# EAGLE library part RA07H4047M (library kj4qlp)
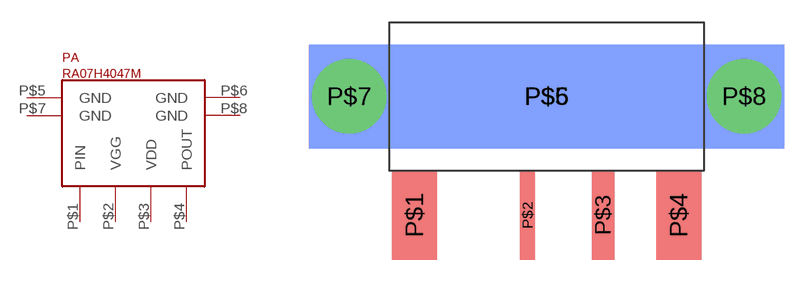
[diagram p2: symbol with the pads of H46; footprint H46]

Designator prefix PA

## RA07H4047M  [H46]
P$1  PIN
P$2  VGG
P$3  VDD
P$4  POUT
P$5  GND
P$6  GND
P$7  GND
P$8  GND

## Footprint H46 (pad centres in mm)
smd 3.048 x 6: P$1 -8.9,-8; P$4 8.9,-8
smd 1.016 x 6: P$2 -1.3,-8
smd 1.524 x 6: P$3 3.8,-8
smd 32 x 7: P$5 0,0
smd 32 x 7 bottom: P$6 0,0
drill 3 pad 5: P$7 -13.3,0; P$8 13.3,0